# Altium schematic symbol library ESD5Z5P0T1G.SchLib: 1 symbol
Pins are listed as number, name and electrical type; pins without a type are passive.

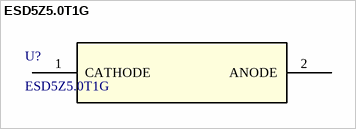
[diagram p0: symbol ESD5Z5.0T1G]

## ESD5Z5.0T1G
designator U?
TVS DIODE 5VWM 18.6VC SOD523; Manufacturer_Name: onsemi; Copyright: Copyright (C) 2025 Ultra Librarian. All rights reserved.; Manufacturer_Part_Number: ESD5Z5.0T1G; RefDes: RefDes; Type: Type
footprint SOD-523_0P9X1P3_ONS
pins: 1 CATHODE, 2 ANODE